# Altium schematic symbol library Jumper_2p.SchLib: 1 symbol
Pins are listed as number, name and electrical type; pins without a type are passive.

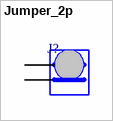
[diagram p0: symbol Jumper_2p]

## Jumper_2p
designator J?
pins: 1, 2